# Altium integrated library CONTROLLERS.IntLib: 1 symbol
Pins are listed as number, name and electrical type; pins without a type are passive.

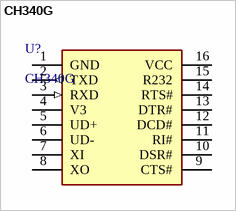
[diagram p0: symbol CH340G]

## CH340G
designator U?
USB Bridge, USB to UART USB 2.0 UART Interface 16-SSOP; Manufacturer: WCH(Jiangsu Qin Heng); Supplier: LCSC; Supplier Part Number: C14267; Manufacturer Part Number: CH340G; Case/Package: SOP-16; ComponentLink1Description: Datasheet; ComponentLink1URL: https://datasheet.lcsc.com/lcsc/2008191806_WCH-Jiangsu-Qin-Heng-CH340G_C14267.pdf
footprint CH340G-SOP-16 (USB Bridge, USB to UART USB 2.0 UART Interface 16-SSOP)
pins: 1 GND (power), 2 TXD (out), 3 RXD (in), 4 V3, 5 UD+, 6 UD-, 7 XI, 8 XO, 9 CTS#, 10 DSR#, 11 RI#, 12 DCD#, 13 DTR#, 14 RTS#, 15 R232, 16 VCC (power)